# Altium integrated library Linear Technology PMIC-Switching Reg LTC1174-LTC3901.IntLib: 2647 symbols (part 57 of 310)
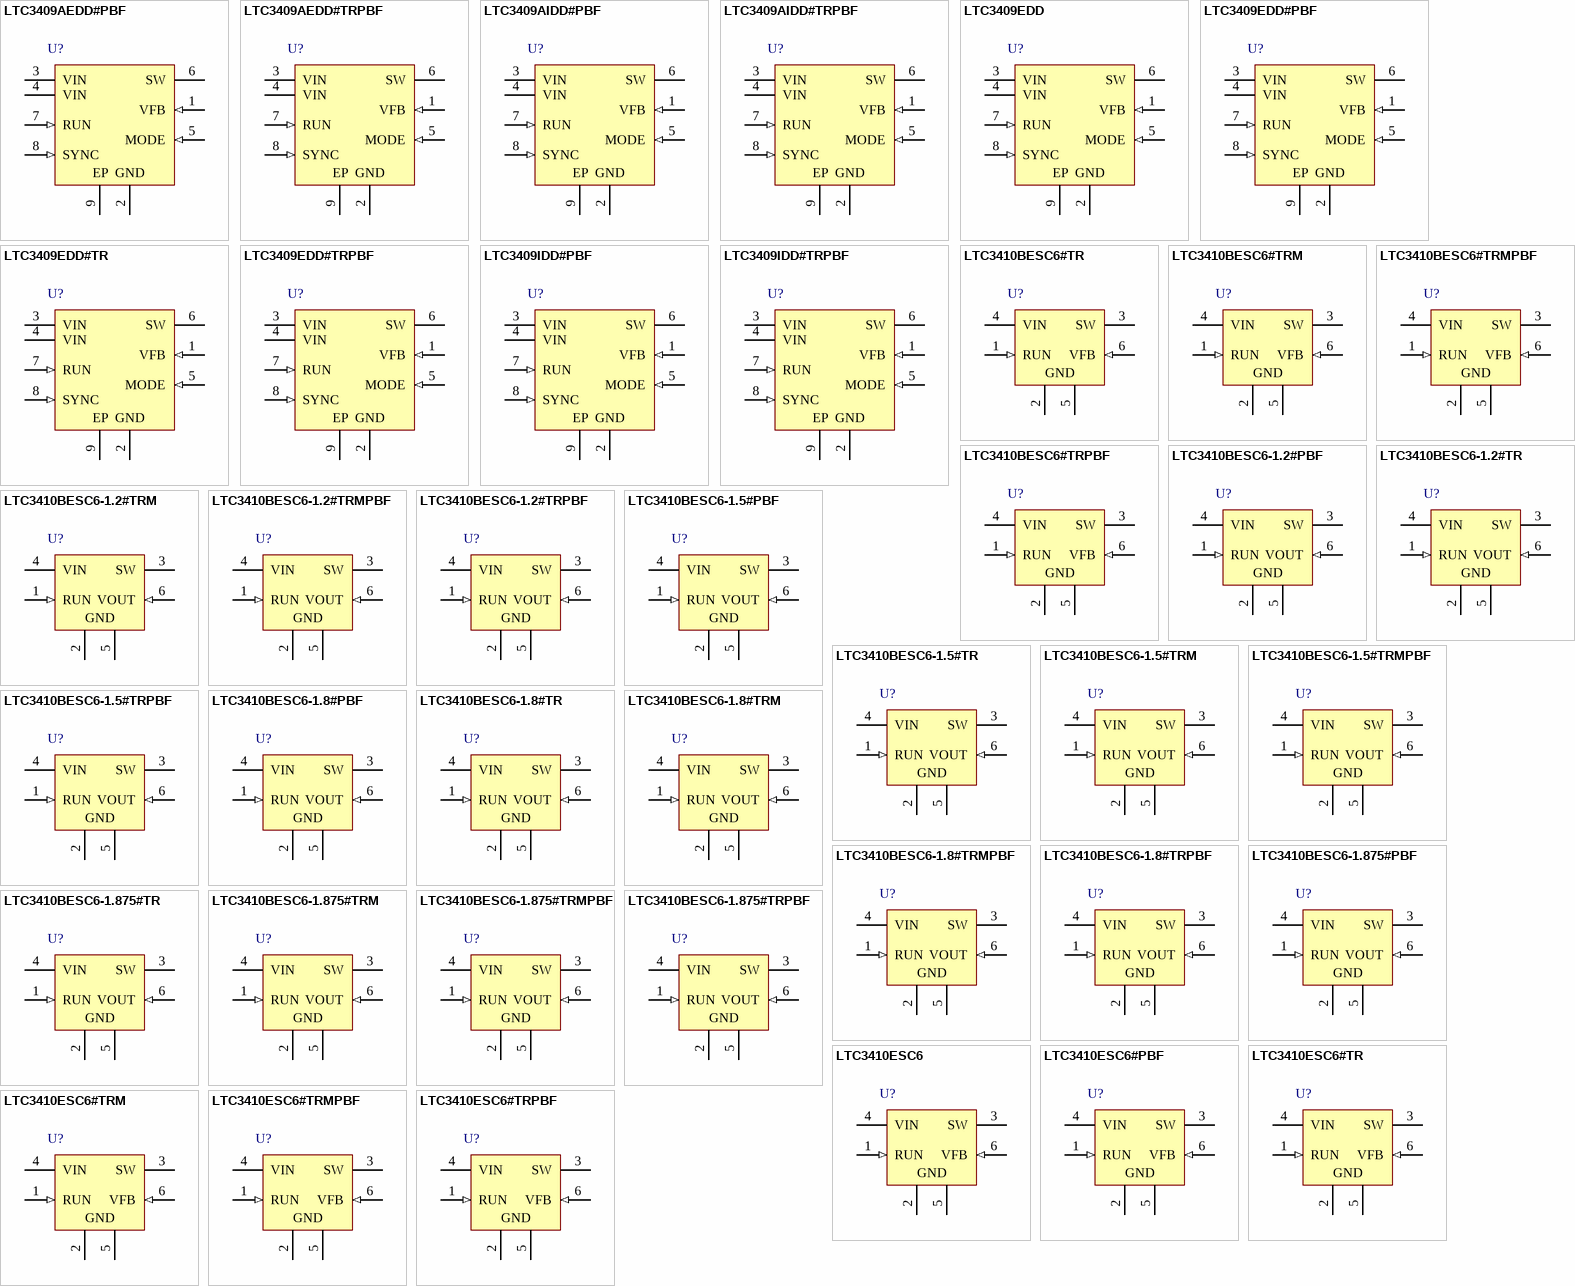
[diagram p149: symbols LTC3409AEDD#PBF to LTC3410ESC6#TRPBF]

## LTC3409EDD#PBF
designator U?
600 mA Low Buck Regulator, 1.6 to 5.5 V Vin, 8-pin SON (DD-8), -40 to 85 degC, Pb-Free; Manufacturer: Linear Technology; PartNumber: LTC3409EDD#PBF; Number of Outputs: 1; PackageReference: DD-8; PackageDescription: 8-Pin Plastic DFN, Body 3 x 3 mm, Pitch 0.5 mm; Supplier 1: Digi-Key; Supplier Part Number 1: LTC3409EDD#PBF-ND; RoHS: TRUE; Code_JEDEC: MO-229
footprint LT-DD-8_V (SON, 8-Leads, Body 3x3mm, Pitch 0.5mm, Thermal Pad 1.65x2.38 mm)
pins: 1 VFB (in) "Feedback Pin. Receives the feedback voltage from an external resistive divider across the output.", 2 GND (power) "Ground Pin.", 3 VIN (power) "Main Supply Pins. Must be closely decoupled to GND, Pin 2 and Pin 9, with a 4.7uF or greater ceramic capacitor.", 4 VIN (power) "Main Supply Pins. Must be closely decoupled to GND, Pin 2 and Pin 9, with a 4.7uF or greater ceramic capacitor.", 5 MODE (in) "Mode Select Input. To select pulse skipping mode, force this pin above 1.1V. Forcing this pin below 0.3V selects Burst Mode operation. Do not leave MODE floating.", 6 SW (power) "Switch Node Connection to Inductor. This pin connects to the drains of the internal main and synchronous power MOSFET switches.", 7 RUN (in) "Run Control Input. Forcing this pin above 1.1V enables the part. Forcing this pin below 0.3V shuts down the device. In shutdown, all functions are disabled drawing <1uA supply current. Do not leave RUN floating.", 8 SYNC (in) "External CLK Input/Fixed Switching Frequency Selection. Forcing this pin above 1.1V for greater than 30us selects 2.6MHz switching frequency. Forcing this pin below 0.3V for greater than 30us selects 1.7MHz switching (See Datasheet)", 9 EP (power) "The Exposed Pad is ground. It must be soldered to PCB ground to provide both electrical contact and optimum thermal performance."

## LTC3409EDD#TR
designator U?
600 mA Low Buck Regulator, 1.6 to 5.5 V Vin, 8-pin SON (DD-8), -40 to 85 degC, Tape and Reel; Manufacturer: Linear Technology; PartNumber: LTC3409EDD#TR; Number of Outputs: 1; PackageReference: DD-8; PackageDescription: 8-Pin Plastic DFN, Body 3 x 3 mm, Pitch 0.5 mm; RoHS: FALSE; Code_JEDEC: MO-229
footprint LT-DD-8_V (SON, 8-Leads, Body 3x3mm, Pitch 0.5mm, Thermal Pad 1.65x2.38 mm)
pins: 1 VFB (in) "Feedback Pin. Receives the feedback voltage from an external resistive divider across the output.", 2 GND (power) "Ground Pin.", 3 VIN (power) "Main Supply Pins. Must be closely decoupled to GND, Pin 2 and Pin 9, with a 4.7uF or greater ceramic capacitor.", 4 VIN (power) "Main Supply Pins. Must be closely decoupled to GND, Pin 2 and Pin 9, with a 4.7uF or greater ceramic capacitor.", 5 MODE (in) "Mode Select Input. To select pulse skipping mode, force this pin above 1.1V. Forcing this pin below 0.3V selects Burst Mode operation. Do not leave MODE floating.", 6 SW (power) "Switch Node Connection to Inductor. This pin connects to the drains of the internal main and synchronous power MOSFET switches.", 7 RUN (in) "Run Control Input. Forcing this pin above 1.1V enables the part. Forcing this pin below 0.3V shuts down the device. In shutdown, all functions are disabled drawing <1uA supply current. Do not leave RUN floating.", 8 SYNC (in) "External CLK Input/Fixed Switching Frequency Selection. Forcing this pin above 1.1V for greater than 30us selects 2.6MHz switching frequency. Forcing this pin below 0.3V for greater than 30us selects 1.7MHz switching (See Datasheet)", 9 EP (power) "The Exposed Pad is ground. It must be soldered to PCB ground to provide both electrical contact and optimum thermal performance."

## LTC3409EDD#TRPBF
designator U?
600 mA Low Buck Regulator, 1.6 to 5.5 V Vin, 8-pin SON (DD-8), -40 to 85 degC, Pb-Free, Tape and Reel; Manufacturer: Linear Technology; PartNumber: LTC3409EDD#TRPBF; Number of Outputs: 1; PackageReference: DD-8; PackageDescription: 8-Pin Plastic DFN, Body 3 x 3 mm, Pitch 0.5 mm; Supplier 1: Digi-Key; Supplier Part Number 1: LTC3409EDD#TRPBF-ND; RoHS: TRUE; Code_JEDEC: MO-229
footprint LT-DD-8_V (SON, 8-Leads, Body 3x3mm, Pitch 0.5mm, Thermal Pad 1.65x2.38 mm)
pins: 1 VFB (in) "Feedback Pin. Receives the feedback voltage from an external resistive divider across the output.", 2 GND (power) "Ground Pin.", 3 VIN (power) "Main Supply Pins. Must be closely decoupled to GND, Pin 2 and Pin 9, with a 4.7uF or greater ceramic capacitor.", 4 VIN (power) "Main Supply Pins. Must be closely decoupled to GND, Pin 2 and Pin 9, with a 4.7uF or greater ceramic capacitor.", 5 MODE (in) "Mode Select Input. To select pulse skipping mode, force this pin above 1.1V. Forcing this pin below 0.3V selects Burst Mode operation. Do not leave MODE floating.", 6 SW (power) "Switch Node Connection to Inductor. This pin connects to the drains of the internal main and synchronous power MOSFET switches.", 7 RUN (in) "Run Control Input. Forcing this pin above 1.1V enables the part. Forcing this pin below 0.3V shuts down the device. In shutdown, all functions are disabled drawing <1uA supply current. Do not leave RUN floating.", 8 SYNC (in) "External CLK Input/Fixed Switching Frequency Selection. Forcing this pin above 1.1V for greater than 30us selects 2.6MHz switching frequency. Forcing this pin below 0.3V for greater than 30us selects 1.7MHz switching (See Datasheet)", 9 EP (power) "The Exposed Pad is ground. It must be soldered to PCB ground to provide both electrical contact and optimum thermal performance."

## LTC3409IDD#PBF
designator U?
600 mA Low Buck Regulator, 1.6 to 5.5 V Vin, 8-pin SON (DD-8), -40 to 85 degC, Pb-Free; Manufacturer: Linear Technology; PartNumber: LTC3409IDD#PBF; Number of Outputs: 1; PackageReference: DD-8; PackageDescription: 8-Pin Plastic DFN, Body 3 x 3 mm, Pitch 0.5 mm; Supplier 1: Digi-Key; Supplier Part Number 1: LTC3409IDD#PBF-ND; RoHS: TRUE; Code_JEDEC: MO-229
footprint LT-DD-8_V (SON, 8-Leads, Body 3x3mm, Pitch 0.5mm, Thermal Pad 1.65x2.38 mm)
pins: 1 VFB (in) "Feedback Pin. Receives the feedback voltage from an external resistive divider across the output.", 2 GND (power) "Ground Pin.", 3 VIN (power) "Main Supply Pins. Must be closely decoupled to GND, Pin 2 and Pin 9, with a 4.7uF or greater ceramic capacitor.", 4 VIN (power) "Main Supply Pins. Must be closely decoupled to GND, Pin 2 and Pin 9, with a 4.7uF or greater ceramic capacitor.", 5 MODE (in) "Mode Select Input. To select pulse skipping mode, force this pin above 1.1V. Forcing this pin below 0.3V selects Burst Mode operation. Do not leave MODE floating.", 6 SW (power) "Switch Node Connection to Inductor. This pin connects to the drains of the internal main and synchronous power MOSFET switches.", 7 RUN (in) "Run Control Input. Forcing this pin above 1.1V enables the part. Forcing this pin below 0.3V shuts down the device. In shutdown, all functions are disabled drawing <1uA supply current. Do not leave RUN floating.", 8 SYNC (in) "External CLK Input/Fixed Switching Frequency Selection. Forcing this pin above 1.1V for greater than 30us selects 2.6MHz switching frequency. Forcing this pin below 0.3V for greater than 30us selects 1.7MHz switching (See Datasheet)", 9 EP (power) "The Exposed Pad is ground. It must be soldered to PCB ground to provide both electrical contact and optimum thermal performance."

## LTC3409IDD#TRPBF
designator U?
600 mA Low Buck Regulator, 1.6 to 5.5 V Vin, 8-pin SON (DD-8), -40 to 85 degC, Pb-Free, Tape and Reel; Manufacturer: Linear Technology; PartNumber: LTC3409IDD#TRPBF; Number of Outputs: 1; PackageReference: DD-8; PackageDescription: 8-Pin Plastic DFN, Body 3 x 3 mm, Pitch 0.5 mm; Supplier 1: Digi-Key; Supplier Part Number 1: LTC3409IDD#TRPBF-ND; RoHS: TRUE; Code_JEDEC: MO-229
footprint LT-DD-8_V (SON, 8-Leads, Body 3x3mm, Pitch 0.5mm, Thermal Pad 1.65x2.38 mm)
pins: 1 VFB (in) "Feedback Pin. Receives the feedback voltage from an external resistive divider across the output.", 2 GND (power) "Ground Pin.", 3 VIN (power) "Main Supply Pins. Must be closely decoupled to GND, Pin 2 and Pin 9, with a 4.7uF or greater ceramic capacitor.", 4 VIN (power) "Main Supply Pins. Must be closely decoupled to GND, Pin 2 and Pin 9, with a 4.7uF or greater ceramic capacitor.", 5 MODE (in) "Mode Select Input. To select pulse skipping mode, force this pin above 1.1V. Forcing this pin below 0.3V selects Burst Mode operation. Do not leave MODE floating.", 6 SW (power) "Switch Node Connection to Inductor. This pin connects to the drains of the internal main and synchronous power MOSFET switches.", 7 RUN (in) "Run Control Input. Forcing this pin above 1.1V enables the part. Forcing this pin below 0.3V shuts down the device. In shutdown, all functions are disabled drawing <1uA supply current. Do not leave RUN floating.", 8 SYNC (in) "External CLK Input/Fixed Switching Frequency Selection. Forcing this pin above 1.1V for greater than 30us selects 2.6MHz switching frequency. Forcing this pin below 0.3V for greater than 30us selects 1.7MHz switching (See Datasheet)", 9 EP (power) "The Exposed Pad is ground. It must be soldered to PCB ground to provide both electrical contact and optimum thermal performance."

## LTC3410BESC6#TR
designator U?
2.25 MHz, 300 mA Synchronous Step-Down Regulator, 6-pin SOT23 (SC6-6), -40 to 85 degC, Tape and Reel; Manufacturer: Linear Technology; PartNumber: LTC3410BESC6#TR; Number of Outputs: 1; PackageReference: SC6-6; PackageDescription: 6-Pin Plastic SC70, Body 2 x 1.25 mm, Pitch 0.65 mm; RoHS: FALSE; Code_JEDEC: MO-203
footprint LT-SC6-6-SC70_N (SOT23, 6-Leads, Body 2.2x1.35mm, Pitch 0.65mm, IPC Medium Density)
footprint LT-SC6-6-SC70_L (SOT23, 6-Leads, Body 2.2x1.35mm, Pitch 0.65mm, IPC High Density)
footprint LT-SC6-6-SC70_M (SOT23, 6-Leads, Body 2.2x1.35mm, Pitch 0.65mm, IPC Low Density)
pins: 1 RUN (in) "Run Control Input. Forcing this pin above 1.5V enables the part. Forcing this pin below 0.3V shuts down the device. In shutdown, all functions are disabled drawing <1uA supply current. Do not leave RUN floating.", 2 GND (power) "Ground Pin.", 3 SW (power) "Switch Node Connection to Inductor. This pin connects to the drains of the internal main and synchronous power MOSFET switches.", 4 VIN (power) "Main Supply Pin. Must be closely decoupled to GND, Pin 2, with a 2.2uF or greater ceramic capacitor.", 5 GND (power) "Ground Pin.", 6 VFB (in) "Feedback Pin. Receives the feedback voltage from an external resistive divider across the output."

## LTC3410BESC6#TRM
designator U?
2.25 MHz, 300 mA Synchronous Step-Down Regulator, 6-pin SOT23 (SC6-6), -40 to 85 degC, Mini Tape and Reel; Manufacturer: Linear Technology; PartNumber: LTC3410BESC6#TRM; Number of Outputs: 1; PackageReference: SC6-6; PackageDescription: 6-Pin Plastic SC70, Body 2 x 1.25 mm, Pitch 0.65 mm; RoHS: FALSE; Code_JEDEC: MO-203
footprint LT-SC6-6-SC70_N (SOT23, 6-Leads, Body 2.2x1.35mm, Pitch 0.65mm, IPC Medium Density)
footprint LT-SC6-6-SC70_L (SOT23, 6-Leads, Body 2.2x1.35mm, Pitch 0.65mm, IPC High Density)
footprint LT-SC6-6-SC70_M (SOT23, 6-Leads, Body 2.2x1.35mm, Pitch 0.65mm, IPC Low Density)
pins: 1 RUN (in) "Run Control Input. Forcing this pin above 1.5V enables the part. Forcing this pin below 0.3V shuts down the device. In shutdown, all functions are disabled drawing <1uA supply current. Do not leave RUN floating.", 2 GND (power) "Ground Pin.", 3 SW (power) "Switch Node Connection to Inductor. This pin connects to the drains of the internal main and synchronous power MOSFET switches.", 4 VIN (power) "Main Supply Pin. Must be closely decoupled to GND, Pin 2, with a 2.2uF or greater ceramic capacitor.", 5 GND (power) "Ground Pin.", 6 VFB (in) "Feedback Pin. Receives the feedback voltage from an external resistive divider across the output."

## LTC3410BESC6#TRMPBF
designator U?
2.25 MHz, 300 mA Synchronous Step-Down Regulator, 6-pin SOT23 (SC6-6), -40 to 85 degC, Pb-Free, Mini Tape and Reel; Manufacturer: Linear Technology; PartNumber: LTC3410BESC6#TRMPBF; Number of Outputs: 1; PackageReference: SC6-6; PackageDescription: 6-Pin Plastic SC70, Body 2 x 1.25 mm, Pitch 0.65 mm; Supplier 1: Digi-Key; Supplier Part Number 1: LTC3410BESC6#TRMPBF-ND; RoHS: TRUE; Code_JEDEC: MO-203
footprint LT-SC6-6-SC70_N (SOT23, 6-Leads, Body 2.2x1.35mm, Pitch 0.65mm, IPC Medium Density)
footprint LT-SC6-6-SC70_L (SOT23, 6-Leads, Body 2.2x1.35mm, Pitch 0.65mm, IPC High Density)
footprint LT-SC6-6-SC70_M (SOT23, 6-Leads, Body 2.2x1.35mm, Pitch 0.65mm, IPC Low Density)
pins: 1 RUN (in) "Run Control Input. Forcing this pin above 1.5V enables the part. Forcing this pin below 0.3V shuts down the device. In shutdown, all functions are disabled drawing <1uA supply current. Do not leave RUN floating.", 2 GND (power) "Ground Pin.", 3 SW (power) "Switch Node Connection to Inductor. This pin connects to the drains of the internal main and synchronous power MOSFET switches.", 4 VIN (power) "Main Supply Pin. Must be closely decoupled to GND, Pin 2, with a 2.2uF or greater ceramic capacitor.", 5 GND (power) "Ground Pin.", 6 VFB (in) "Feedback Pin. Receives the feedback voltage from an external resistive divider across the output."

## LTC3410BESC6#TRPBF
designator U?
2.25 MHz, 300 mA Synchronous Step-Down Regulator, 6-pin SOT23 (SC6-6), -40 to 85 degC, Pb-Free, Tape and Reel; Manufacturer: Linear Technology; PartNumber: LTC3410BESC6#TRPBF; Number of Outputs: 1; PackageReference: SC6-6; PackageDescription: 6-Pin Plastic SC70, Body 2 x 1.25 mm, Pitch 0.65 mm; Supplier 1: Digi-Key; Supplier Part Number 1: LTC3410BESC6#TRPBF-ND; RoHS: TRUE; Code_JEDEC: MO-203
footprint LT-SC6-6-SC70_N (SOT23, 6-Leads, Body 2.2x1.35mm, Pitch 0.65mm, IPC Medium Density)
footprint LT-SC6-6-SC70_L (SOT23, 6-Leads, Body 2.2x1.35mm, Pitch 0.65mm, IPC High Density)
footprint LT-SC6-6-SC70_M (SOT23, 6-Leads, Body 2.2x1.35mm, Pitch 0.65mm, IPC Low Density)
pins: 1 RUN (in) "Run Control Input. Forcing this pin above 1.5V enables the part. Forcing this pin below 0.3V shuts down the device. In shutdown, all functions are disabled drawing <1uA supply current. Do not leave RUN floating.", 2 GND (power) "Ground Pin.", 3 SW (power) "Switch Node Connection to Inductor. This pin connects to the drains of the internal main and synchronous power MOSFET switches.", 4 VIN (power) "Main Supply Pin. Must be closely decoupled to GND, Pin 2, with a 2.2uF or greater ceramic capacitor.", 5 GND (power) "Ground Pin.", 6 VFB (in) "Feedback Pin. Receives the feedback voltage from an external resistive divider across the output."

## LTC3410BESC6-1.2#PBF
designator U?
2.25 MHz, 300 mA Synchronous Step-Down Regulator, 6-pin SOT23 (SC6-6), -40 to 85 degC, Pb-Free; Manufacturer: Linear Technology; PartNumber: LTC3410BESC6-1.2#PBF; Number of Outputs: 1; PackageReference: SC6-6; PackageDescription: 6-Pin Plastic SC70, Body 2 x 1.25 mm, Pitch 0.65 mm; RoHS: TRUE; Code_JEDEC: MO-203
footprint LT-SC6-6-SC70_N (SOT23, 6-Leads, Body 2.2x1.35mm, Pitch 0.65mm, IPC Medium Density)
footprint LT-SC6-6-SC70_L (SOT23, 6-Leads, Body 2.2x1.35mm, Pitch 0.65mm, IPC High Density)
footprint LT-SC6-6-SC70_M (SOT23, 6-Leads, Body 2.2x1.35mm, Pitch 0.65mm, IPC Low Density)
pins: 1 RUN (in) "Run Control Input. Forcing this pin above 1.5V enables the part. Forcing this pin below 0.3V shuts down the device. In shutdown, all functions are disabled drawing <1uA supply current. Do not leave RUN floating.", 2 GND (power) "Ground Pin.", 3 SW (power) "Switch Node Connection to Inductor. This pin connects to the drains of the internal main and synchronous power MOSFET switches.", 4 VIN (power) "Main Supply Pin. Must be closely decoupled to GND, Pin 2, with a 2.2uF or greater ceramic capacitor.", 5 GND (power) "Ground Pin.", 6 VOUT (in) "Output Voltage Feedback Pin."

## LTC3410BESC6-1.2#TR
designator U?
2.25 MHz, 300 mA Synchronous Step-Down Regulator, 6-pin SOT23 (SC6-6), -40 to 85 degC, Tape and Reel; Manufacturer: Linear Technology; PartNumber: LTC3410BESC6-1.2#TR; Number of Outputs: 1; PackageReference: SC6-6; PackageDescription: 6-Pin Plastic SC70, Body 2 x 1.25 mm, Pitch 0.65 mm; RoHS: FALSE; Code_JEDEC: MO-203
footprint LT-SC6-6-SC70_N (SOT23, 6-Leads, Body 2.2x1.35mm, Pitch 0.65mm, IPC Medium Density)
footprint LT-SC6-6-SC70_L (SOT23, 6-Leads, Body 2.2x1.35mm, Pitch 0.65mm, IPC High Density)
footprint LT-SC6-6-SC70_M (SOT23, 6-Leads, Body 2.2x1.35mm, Pitch 0.65mm, IPC Low Density)
pins: 1 RUN (in) "Run Control Input. Forcing this pin above 1.5V enables the part. Forcing this pin below 0.3V shuts down the device. In shutdown, all functions are disabled drawing <1uA supply current. Do not leave RUN floating.", 2 GND (power) "Ground Pin.", 3 SW (power) "Switch Node Connection to Inductor. This pin connects to the drains of the internal main and synchronous power MOSFET switches.", 4 VIN (power) "Main Supply Pin. Must be closely decoupled to GND, Pin 2, with a 2.2uF or greater ceramic capacitor.", 5 GND (power) "Ground Pin.", 6 VOUT (in) "Output Voltage Feedback Pin."

## LTC3410BESC6-1.2#TRM
designator U?
2.25 MHz, 300 mA Synchronous Step-Down Regulator, 6-pin SOT23 (SC6-6), -40 to 85 degC, Mini Tape and Reel; Manufacturer: Linear Technology; PartNumber: LTC3410BESC6-1.2#TRM; Number of Outputs: 1; PackageReference: SC6-6; PackageDescription: 6-Pin Plastic SC70, Body 2 x 1.25 mm, Pitch 0.65 mm; RoHS: FALSE; Code_JEDEC: MO-203
footprint LT-SC6-6-SC70_N (SOT23, 6-Leads, Body 2.2x1.35mm, Pitch 0.65mm, IPC Medium Density)
footprint LT-SC6-6-SC70_L (SOT23, 6-Leads, Body 2.2x1.35mm, Pitch 0.65mm, IPC High Density)
footprint LT-SC6-6-SC70_M (SOT23, 6-Leads, Body 2.2x1.35mm, Pitch 0.65mm, IPC Low Density)
pins: 1 RUN (in) "Run Control Input. Forcing this pin above 1.5V enables the part. Forcing this pin below 0.3V shuts down the device. In shutdown, all functions are disabled drawing <1uA supply current. Do not leave RUN floating.", 2 GND (power) "Ground Pin.", 3 SW (power) "Switch Node Connection to Inductor. This pin connects to the drains of the internal main and synchronous power MOSFET switches.", 4 VIN (power) "Main Supply Pin. Must be closely decoupled to GND, Pin 2, with a 2.2uF or greater ceramic capacitor.", 5 GND (power) "Ground Pin.", 6 VOUT (in) "Output Voltage Feedback Pin."

## LTC3410BESC6-1.2#TRMPBF
designator U?
2.25 MHz, 300 mA Synchronous Step-Down Regulator, 6-pin SOT23 (SC6-6), -40 to 85 degC, Pb-Free, Mini Tape and Reel; Manufacturer: Linear Technology; PartNumber: LTC3410BESC6-1.2#TRMPBF; Number of Outputs: 1; PackageReference: SC6-6; PackageDescription: 6-Pin Plastic SC70, Body 2 x 1.25 mm, Pitch 0.65 mm; Supplier 1: Digi-Key; Supplier Part Number 1: LTC3410BESC6-1.2#TRMPBF-ND; RoHS: TRUE; Code_JEDEC: MO-203
footprint LT-SC6-6-SC70_N (SOT23, 6-Leads, Body 2.2x1.35mm, Pitch 0.65mm, IPC Medium Density)
footprint LT-SC6-6-SC70_L (SOT23, 6-Leads, Body 2.2x1.35mm, Pitch 0.65mm, IPC High Density)
footprint LT-SC6-6-SC70_M (SOT23, 6-Leads, Body 2.2x1.35mm, Pitch 0.65mm, IPC Low Density)
pins: 1 RUN (in) "Run Control Input. Forcing this pin above 1.5V enables the part. Forcing this pin below 0.3V shuts down the device. In shutdown, all functions are disabled drawing <1uA supply current. Do not leave RUN floating.", 2 GND (power) "Ground Pin.", 3 SW (power) "Switch Node Connection to Inductor. This pin connects to the drains of the internal main and synchronous power MOSFET switches.", 4 VIN (power) "Main Supply Pin. Must be closely decoupled to GND, Pin 2, with a 2.2uF or greater ceramic capacitor.", 5 GND (power) "Ground Pin.", 6 VOUT (in) "Output Voltage Feedback Pin."

## LTC3410BESC6-1.2#TRPBF
designator U?
2.25 MHz, 300 mA Synchronous Step-Down Regulator, 6-pin SOT23 (SC6-6), -40 to 85 degC, Pb-Free, Tape and Reel; Manufacturer: Linear Technology; PartNumber: LTC3410BESC6-1.2#TRPBF; Number of Outputs: 1; PackageReference: SC6-6; PackageDescription: 6-Pin Plastic SC70, Body 2 x 1.25 mm, Pitch 0.65 mm; Supplier 1: Digi-Key; Supplier Part Number 1: LTC3410BESC6-1.2#TRPBF-ND; RoHS: TRUE; Code_JEDEC: MO-203
footprint LT-SC6-6-SC70_N (SOT23, 6-Leads, Body 2.2x1.35mm, Pitch 0.65mm, IPC Medium Density)
footprint LT-SC6-6-SC70_L (SOT23, 6-Leads, Body 2.2x1.35mm, Pitch 0.65mm, IPC High Density)
footprint LT-SC6-6-SC70_M (SOT23, 6-Leads, Body 2.2x1.35mm, Pitch 0.65mm, IPC Low Density)
pins: 1 RUN (in) "Run Control Input. Forcing this pin above 1.5V enables the part. Forcing this pin below 0.3V shuts down the device. In shutdown, all functions are disabled drawing <1uA supply current. Do not leave RUN floating.", 2 GND (power) "Ground Pin.", 3 SW (power) "Switch Node Connection to Inductor. This pin connects to the drains of the internal main and synchronous power MOSFET switches.", 4 VIN (power) "Main Supply Pin. Must be closely decoupled to GND, Pin 2, with a 2.2uF or greater ceramic capacitor.", 5 GND (power) "Ground Pin.", 6 VOUT (in) "Output Voltage Feedback Pin."

## LTC3410BESC6-1.5#PBF
designator U?
2.25 MHz, 300 mA Synchronous Step-Down Regulator, 6-pin SOT23 (SC6-6), -40 to 85 degC, Pb-Free; Manufacturer: Linear Technology; PartNumber: LTC3410BESC6-1.5#PBF; Number of Outputs: 1; PackageReference: SC6-6; PackageDescription: 6-Pin Plastic SC70, Body 2 x 1.25 mm, Pitch 0.65 mm; RoHS: TRUE; Code_JEDEC: MO-203
footprint LT-SC6-6-SC70_N (SOT23, 6-Leads, Body 2.2x1.35mm, Pitch 0.65mm, IPC Medium Density)
footprint LT-SC6-6-SC70_L (SOT23, 6-Leads, Body 2.2x1.35mm, Pitch 0.65mm, IPC High Density)
footprint LT-SC6-6-SC70_M (SOT23, 6-Leads, Body 2.2x1.35mm, Pitch 0.65mm, IPC Low Density)
pins: 1 RUN (in) "Run Control Input. Forcing this pin above 1.5V enables the part. Forcing this pin below 0.3V shuts down the device. In shutdown, all functions are disabled drawing <1uA supply current. Do not leave RUN floating.", 2 GND (power) "Ground Pin.", 3 SW (power) "Switch Node Connection to Inductor. This pin connects to the drains of the internal main and synchronous power MOSFET switches.", 4 VIN (power) "Main Supply Pin. Must be closely decoupled to GND, Pin 2, with a 2.2uF or greater ceramic capacitor.", 5 GND (power) "Ground Pin.", 6 VOUT (in) "Output Voltage Feedback Pin."

## LTC3410BESC6-1.5#TR
designator U?
2.25 MHz, 300 mA Synchronous Step-Down Regulator, 6-pin SOT23 (SC6-6), -40 to 85 degC, Tape and Reel; Manufacturer: Linear Technology; PartNumber: LTC3410BESC6-1.5#TR; Number of Outputs: 1; PackageReference: SC6-6; PackageDescription: 6-Pin Plastic SC70, Body 2 x 1.25 mm, Pitch 0.65 mm; RoHS: FALSE; Code_JEDEC: MO-203
footprint LT-SC6-6-SC70_N (SOT23, 6-Leads, Body 2.2x1.35mm, Pitch 0.65mm, IPC Medium Density)
footprint LT-SC6-6-SC70_L (SOT23, 6-Leads, Body 2.2x1.35mm, Pitch 0.65mm, IPC High Density)
footprint LT-SC6-6-SC70_M (SOT23, 6-Leads, Body 2.2x1.35mm, Pitch 0.65mm, IPC Low Density)
pins: 1 RUN (in) "Run Control Input. Forcing this pin above 1.5V enables the part. Forcing this pin below 0.3V shuts down the device. In shutdown, all functions are disabled drawing <1uA supply current. Do not leave RUN floating.", 2 GND (power) "Ground Pin.", 3 SW (power) "Switch Node Connection to Inductor. This pin connects to the drains of the internal main and synchronous power MOSFET switches.", 4 VIN (power) "Main Supply Pin. Must be closely decoupled to GND, Pin 2, with a 2.2uF or greater ceramic capacitor.", 5 GND (power) "Ground Pin.", 6 VOUT (in) "Output Voltage Feedback Pin."

## LTC3410BESC6-1.5#TRM
designator U?
2.25 MHz, 300 mA Synchronous Step-Down Regulator, 6-pin SOT23 (SC6-6), -40 to 85 degC, Mini Tape and Reel; Manufacturer: Linear Technology; PartNumber: LTC3410BESC6-1.5#TRM; Number of Outputs: 1; PackageReference: SC6-6; PackageDescription: 6-Pin Plastic SC70, Body 2 x 1.25 mm, Pitch 0.65 mm; RoHS: FALSE; Code_JEDEC: MO-203
footprint LT-SC6-6-SC70_N (SOT23, 6-Leads, Body 2.2x1.35mm, Pitch 0.65mm, IPC Medium Density)
footprint LT-SC6-6-SC70_L (SOT23, 6-Leads, Body 2.2x1.35mm, Pitch 0.65mm, IPC High Density)
footprint LT-SC6-6-SC70_M (SOT23, 6-Leads, Body 2.2x1.35mm, Pitch 0.65mm, IPC Low Density)
pins: 1 RUN (in) "Run Control Input. Forcing this pin above 1.5V enables the part. Forcing this pin below 0.3V shuts down the device. In shutdown, all functions are disabled drawing <1uA supply current. Do not leave RUN floating.", 2 GND (power) "Ground Pin.", 3 SW (power) "Switch Node Connection to Inductor. This pin connects to the drains of the internal main and synchronous power MOSFET switches.", 4 VIN (power) "Main Supply Pin. Must be closely decoupled to GND, Pin 2, with a 2.2uF or greater ceramic capacitor.", 5 GND (power) "Ground Pin.", 6 VOUT (in) "Output Voltage Feedback Pin."

## LTC3410BESC6-1.5#TRMPBF
designator U?
2.25 MHz, 300 mA Synchronous Step-Down Regulator, 6-pin SOT23 (SC6-6), -40 to 85 degC, Pb-Free, Mini Tape and Reel; Manufacturer: Linear Technology; PartNumber: LTC3410BESC6-1.5#TRMPBF; Number of Outputs: 1; PackageReference: SC6-6; PackageDescription: 6-Pin Plastic SC70, Body 2 x 1.25 mm, Pitch 0.65 mm; Supplier 1: Digi-Key; Supplier Part Number 1: LTC3410BESC6-1.5#TRMPBF-ND; RoHS: TRUE; Code_JEDEC: MO-203
footprint LT-SC6-6-SC70_N (SOT23, 6-Leads, Body 2.2x1.35mm, Pitch 0.65mm, IPC Medium Density)
footprint LT-SC6-6-SC70_L (SOT23, 6-Leads, Body 2.2x1.35mm, Pitch 0.65mm, IPC High Density)
footprint LT-SC6-6-SC70_M (SOT23, 6-Leads, Body 2.2x1.35mm, Pitch 0.65mm, IPC Low Density)
pins: 1 RUN (in) "Run Control Input. Forcing this pin above 1.5V enables the part. Forcing this pin below 0.3V shuts down the device. In shutdown, all functions are disabled drawing <1uA supply current. Do not leave RUN floating.", 2 GND (power) "Ground Pin.", 3 SW (power) "Switch Node Connection to Inductor. This pin connects to the drains of the internal main and synchronous power MOSFET switches.", 4 VIN (power) "Main Supply Pin. Must be closely decoupled to GND, Pin 2, with a 2.2uF or greater ceramic capacitor.", 5 GND (power) "Ground Pin.", 6 VOUT (in) "Output Voltage Feedback Pin."

## LTC3410BESC6-1.5#TRPBF
designator U?
2.25 MHz, 300 mA Synchronous Step-Down Regulator, 6-pin SOT23 (SC6-6), -40 to 85 degC, Pb-Free, Tape and Reel; Manufacturer: Linear Technology; PartNumber: LTC3410BESC6-1.5#TRPBF; Number of Outputs: 1; PackageReference: SC6-6; PackageDescription: 6-Pin Plastic SC70, Body 2 x 1.25 mm, Pitch 0.65 mm; Supplier 1: Digi-Key; Supplier Part Number 1: LTC3410BESC6-1.5#TRPBF-ND; RoHS: TRUE; Code_JEDEC: MO-203
footprint LT-SC6-6-SC70_N (SOT23, 6-Leads, Body 2.2x1.35mm, Pitch 0.65mm, IPC Medium Density)
footprint LT-SC6-6-SC70_L (SOT23, 6-Leads, Body 2.2x1.35mm, Pitch 0.65mm, IPC High Density)
footprint LT-SC6-6-SC70_M (SOT23, 6-Leads, Body 2.2x1.35mm, Pitch 0.65mm, IPC Low Density)
pins: 1 RUN (in) "Run Control Input. Forcing this pin above 1.5V enables the part. Forcing this pin below 0.3V shuts down the device. In shutdown, all functions are disabled drawing <1uA supply current. Do not leave RUN floating.", 2 GND (power) "Ground Pin.", 3 SW (power) "Switch Node Connection to Inductor. This pin connects to the drains of the internal main and synchronous power MOSFET switches.", 4 VIN (power) "Main Supply Pin. Must be closely decoupled to GND, Pin 2, with a 2.2uF or greater ceramic capacitor.", 5 GND (power) "Ground Pin.", 6 VOUT (in) "Output Voltage Feedback Pin."

## LTC3410BESC6-1.8#PBF
designator U?
2.25 MHz, 300 mA Synchronous Step-Down Regulator, 6-pin SOT23 (SC6-6), -40 to 85 degC, Pb-Free; Manufacturer: Linear Technology; PartNumber: LTC3410BESC6-1.8#PBF; Number of Outputs: 1; PackageReference: SC6-6; PackageDescription: 6-Pin Plastic SC70, Body 2 x 1.25 mm, Pitch 0.65 mm; RoHS: TRUE; Code_JEDEC: MO-203
footprint LT-SC6-6-SC70_N (SOT23, 6-Leads, Body 2.2x1.35mm, Pitch 0.65mm, IPC Medium Density)
footprint LT-SC6-6-SC70_L (SOT23, 6-Leads, Body 2.2x1.35mm, Pitch 0.65mm, IPC High Density)
footprint LT-SC6-6-SC70_M (SOT23, 6-Leads, Body 2.2x1.35mm, Pitch 0.65mm, IPC Low Density)
pins: 1 RUN (in) "Run Control Input. Forcing this pin above 1.5V enables the part. Forcing this pin below 0.3V shuts down the device. In shutdown, all functions are disabled drawing <1uA supply current. Do not leave RUN floating.", 2 GND (power) "Ground Pin.", 3 SW (power) "Switch Node Connection to Inductor. This pin connects to the drains of the internal main and synchronous power MOSFET switches.", 4 VIN (power) "Main Supply Pin. Must be closely decoupled to GND, Pin 2, with a 2.2uF or greater ceramic capacitor.", 5 GND (power) "Ground Pin.", 6 VOUT (in) "Output Voltage Feedback Pin."

## LTC3410BESC6-1.8#TR
designator U?
2.25 MHz, 300 mA Synchronous Step-Down Regulator, 6-pin SOT23 (SC6-6), -40 to 85 degC, Tape and Reel; Manufacturer: Linear Technology; PartNumber: LTC3410BESC6-1.8#TR; Number of Outputs: 1; PackageReference: SC6-6; PackageDescription: 6-Pin Plastic SC70, Body 2 x 1.25 mm, Pitch 0.65 mm; RoHS: FALSE; Code_JEDEC: MO-203
footprint LT-SC6-6-SC70_N (SOT23, 6-Leads, Body 2.2x1.35mm, Pitch 0.65mm, IPC Medium Density)
footprint LT-SC6-6-SC70_L (SOT23, 6-Leads, Body 2.2x1.35mm, Pitch 0.65mm, IPC High Density)
footprint LT-SC6-6-SC70_M (SOT23, 6-Leads, Body 2.2x1.35mm, Pitch 0.65mm, IPC Low Density)
pins: 1 RUN (in) "Run Control Input. Forcing this pin above 1.5V enables the part. Forcing this pin below 0.3V shuts down the device. In shutdown, all functions are disabled drawing <1uA supply current. Do not leave RUN floating.", 2 GND (power) "Ground Pin.", 3 SW (power) "Switch Node Connection to Inductor. This pin connects to the drains of the internal main and synchronous power MOSFET switches.", 4 VIN (power) "Main Supply Pin. Must be closely decoupled to GND, Pin 2, with a 2.2uF or greater ceramic capacitor.", 5 GND (power) "Ground Pin.", 6 VOUT (in) "Output Voltage Feedback Pin."

## LTC3410BESC6-1.8#TRM
designator U?
2.25 MHz, 300 mA Synchronous Step-Down Regulator, 6-pin SOT23 (SC6-6), -40 to 85 degC, Mini Tape and Reel; Manufacturer: Linear Technology; PartNumber: LTC3410BESC6-1.8#TRM; Number of Outputs: 1; PackageReference: SC6-6; PackageDescription: 6-Pin Plastic SC70, Body 2 x 1.25 mm, Pitch 0.65 mm; RoHS: FALSE; Code_JEDEC: MO-203
footprint LT-SC6-6-SC70_N (SOT23, 6-Leads, Body 2.2x1.35mm, Pitch 0.65mm, IPC Medium Density)
footprint LT-SC6-6-SC70_L (SOT23, 6-Leads, Body 2.2x1.35mm, Pitch 0.65mm, IPC High Density)
footprint LT-SC6-6-SC70_M (SOT23, 6-Leads, Body 2.2x1.35mm, Pitch 0.65mm, IPC Low Density)
pins: 1 RUN (in) "Run Control Input. Forcing this pin above 1.5V enables the part. Forcing this pin below 0.3V shuts down the device. In shutdown, all functions are disabled drawing <1uA supply current. Do not leave RUN floating.", 2 GND (power) "Ground Pin.", 3 SW (power) "Switch Node Connection to Inductor. This pin connects to the drains of the internal main and synchronous power MOSFET switches.", 4 VIN (power) "Main Supply Pin. Must be closely decoupled to GND, Pin 2, with a 2.2uF or greater ceramic capacitor.", 5 GND (power) "Ground Pin.", 6 VOUT (in) "Output Voltage Feedback Pin."

## LTC3410BESC6-1.8#TRMPBF
designator U?
2.25 MHz, 300 mA Synchronous Step-Down Regulator, 6-pin SOT23 (SC6-6), -40 to 85 degC, Pb-Free, Mini Tape and Reel; Manufacturer: Linear Technology; PartNumber: LTC3410BESC6-1.8#TRMPBF; Number of Outputs: 1; PackageReference: SC6-6; PackageDescription: 6-Pin Plastic SC70, Body 2 x 1.25 mm, Pitch 0.65 mm; Supplier 1: Digi-Key; Supplier Part Number 1: LTC3410BESC6-1.8#TRMPBF-ND; RoHS: TRUE; Code_JEDEC: MO-203
footprint LT-SC6-6-SC70_N (SOT23, 6-Leads, Body 2.2x1.35mm, Pitch 0.65mm, IPC Medium Density)
footprint LT-SC6-6-SC70_L (SOT23, 6-Leads, Body 2.2x1.35mm, Pitch 0.65mm, IPC High Density)
footprint LT-SC6-6-SC70_M (SOT23, 6-Leads, Body 2.2x1.35mm, Pitch 0.65mm, IPC Low Density)
pins: 1 RUN (in) "Run Control Input. Forcing this pin above 1.5V enables the part. Forcing this pin below 0.3V shuts down the device. In shutdown, all functions are disabled drawing <1uA supply current. Do not leave RUN floating.", 2 GND (power) "Ground Pin.", 3 SW (power) "Switch Node Connection to Inductor. This pin connects to the drains of the internal main and synchronous power MOSFET switches.", 4 VIN (power) "Main Supply Pin. Must be closely decoupled to GND, Pin 2, with a 2.2uF or greater ceramic capacitor.", 5 GND (power) "Ground Pin.", 6 VOUT (in) "Output Voltage Feedback Pin."

## LTC3410BESC6-1.8#TRPBF
designator U?
2.25 MHz, 300 mA Synchronous Step-Down Regulator, 6-pin SOT23 (SC6-6), -40 to 85 degC, Pb-Free, Tape and Reel; Manufacturer: Linear Technology; PartNumber: LTC3410BESC6-1.8#TRPBF; Number of Outputs: 1; PackageReference: SC6-6; PackageDescription: 6-Pin Plastic SC70, Body 2 x 1.25 mm, Pitch 0.65 mm; Supplier 1: Digi-Key; Supplier Part Number 1: LTC3410BESC6-1.8#TRPBF-ND; RoHS: TRUE; Code_JEDEC: MO-203
footprint LT-SC6-6-SC70_N (SOT23, 6-Leads, Body 2.2x1.35mm, Pitch 0.65mm, IPC Medium Density)
footprint LT-SC6-6-SC70_L (SOT23, 6-Leads, Body 2.2x1.35mm, Pitch 0.65mm, IPC High Density)
footprint LT-SC6-6-SC70_M (SOT23, 6-Leads, Body 2.2x1.35mm, Pitch 0.65mm, IPC Low Density)
pins: 1 RUN (in) "Run Control Input. Forcing this pin above 1.5V enables the part. Forcing this pin below 0.3V shuts down the device. In shutdown, all functions are disabled drawing <1uA supply current. Do not leave RUN floating.", 2 GND (power) "Ground Pin.", 3 SW (power) "Switch Node Connection to Inductor. This pin connects to the drains of the internal main and synchronous power MOSFET switches.", 4 VIN (power) "Main Supply Pin. Must be closely decoupled to GND, Pin 2, with a 2.2uF or greater ceramic capacitor.", 5 GND (power) "Ground Pin.", 6 VOUT (in) "Output Voltage Feedback Pin."

## LTC3410BESC6-1.875#PBF
designator U?
2.25 MHz, 300 mA Synchronous Step-Down Regulator, 6-pin SOT23 (SC6-6), -40 to 85 degC; Manufacturer: Linear Technology; PartNumber: LTC3410BESC6-1.875#PBF; Number of Outputs: 1; PackageReference: SC6-6; PackageDescription: 6-Pin Plastic SC70, Body 2 x 1.25 mm, Pitch 0.65 mm; RoHS: TRUE; Code_JEDEC: MO-203
footprint LT-SC6-6-SC70_N (SOT23, 6-Leads, Body 2.2x1.35mm, Pitch 0.65mm, IPC Medium Density)
footprint LT-SC6-6-SC70_L (SOT23, 6-Leads, Body 2.2x1.35mm, Pitch 0.65mm, IPC High Density)
footprint LT-SC6-6-SC70_M (SOT23, 6-Leads, Body 2.2x1.35mm, Pitch 0.65mm, IPC Low Density)
pins: 1 RUN (in) "Run Control Input. Forcing this pin above 1.5V enables the part. Forcing this pin below 0.3V shuts down the device. In shutdown, all functions are disabled drawing <1uA supply current. Do not leave RUN floating.", 2 GND (power) "Ground Pin.", 3 SW (power) "Switch Node Connection to Inductor. This pin connects to the drains of the internal main and synchronous power MOSFET switches.", 4 VIN (power) "Main Supply Pin. Must be closely decoupled to GND, Pin 2, with a 2.2uF or greater ceramic capacitor.", 5 GND (power) "Ground Pin.", 6 VOUT (in) "Output Voltage Feedback Pin."

## LTC3410BESC6-1.875#TR
designator U?
2.25 MHz, 300 mA Synchronous Step-Down Regulator, 6-pin SOT23 (SC6-6), -40 to 85 degC, Tape and Reel; Manufacturer: Linear Technology; PartNumber: LTC3410BESC6-1.875#TR; Number of Outputs: 1; PackageReference: SC6-6; PackageDescription: 6-Pin Plastic SC70, Body 2 x 1.25 mm, Pitch 0.65 mm; RoHS: FALSE; Code_JEDEC: MO-203
footprint LT-SC6-6-SC70_N (SOT23, 6-Leads, Body 2.2x1.35mm, Pitch 0.65mm, IPC Medium Density)
footprint LT-SC6-6-SC70_L (SOT23, 6-Leads, Body 2.2x1.35mm, Pitch 0.65mm, IPC High Density)
footprint LT-SC6-6-SC70_M (SOT23, 6-Leads, Body 2.2x1.35mm, Pitch 0.65mm, IPC Low Density)
pins: 1 RUN (in) "Run Control Input. Forcing this pin above 1.5V enables the part. Forcing this pin below 0.3V shuts down the device. In shutdown, all functions are disabled drawing <1uA supply current. Do not leave RUN floating.", 2 GND (power) "Ground Pin.", 3 SW (power) "Switch Node Connection to Inductor. This pin connects to the drains of the internal main and synchronous power MOSFET switches.", 4 VIN (power) "Main Supply Pin. Must be closely decoupled to GND, Pin 2, with a 2.2uF or greater ceramic capacitor.", 5 GND (power) "Ground Pin.", 6 VOUT (in) "Output Voltage Feedback Pin."

## LTC3410BESC6-1.875#TRM
designator U?
2.25 MHz, 300 mA Synchronous Step-Down Regulator, 6-pin SOT23 (SC6-6), -40 to 85 degC, Mini Tape and Reel; Manufacturer: Linear Technology; PartNumber: LTC3410BESC6-1.875#TRM; Number of Outputs: 1; PackageReference: SC6-6; PackageDescription: 6-Pin Plastic SC70, Body 2 x 1.25 mm, Pitch 0.65 mm; RoHS: FALSE; Code_JEDEC: MO-203
footprint LT-SC6-6-SC70_N (SOT23, 6-Leads, Body 2.2x1.35mm, Pitch 0.65mm, IPC Medium Density)
footprint LT-SC6-6-SC70_L (SOT23, 6-Leads, Body 2.2x1.35mm, Pitch 0.65mm, IPC High Density)
footprint LT-SC6-6-SC70_M (SOT23, 6-Leads, Body 2.2x1.35mm, Pitch 0.65mm, IPC Low Density)
pins: 1 RUN (in) "Run Control Input. Forcing this pin above 1.5V enables the part. Forcing this pin below 0.3V shuts down the device. In shutdown, all functions are disabled drawing <1uA supply current. Do not leave RUN floating.", 2 GND (power) "Ground Pin.", 3 SW (power) "Switch Node Connection to Inductor. This pin connects to the drains of the internal main and synchronous power MOSFET switches.", 4 VIN (power) "Main Supply Pin. Must be closely decoupled to GND, Pin 2, with a 2.2uF or greater ceramic capacitor.", 5 GND (power) "Ground Pin.", 6 VOUT (in) "Output Voltage Feedback Pin."

## LTC3410BESC6-1.875#TRMPBF
designator U?
2.25 MHz, 300 mA Synchronous Step-Down Regulator, 6-pin SOT23 (SC6-6), -40 to 85 degC, Pb-Free, Mini Tape and Reel; Manufacturer: Linear Technology; PartNumber: LTC3410BESC6-1.875#TRMPBF; Number of Outputs: 1; PackageReference: SC6-6; PackageDescription: 6-Pin Plastic SC70, Body 2 x 1.25 mm, Pitch 0.65 mm; Supplier 1: Digi-Key; Supplier Part Number 1: LTC3410BESC6-1.875#TRMPBF-ND; RoHS: TRUE; Code_JEDEC: MO-203
footprint LT-SC6-6-SC70_N (SOT23, 6-Leads, Body 2.2x1.35mm, Pitch 0.65mm, IPC Medium Density)
footprint LT-SC6-6-SC70_L (SOT23, 6-Leads, Body 2.2x1.35mm, Pitch 0.65mm, IPC High Density)
footprint LT-SC6-6-SC70_M (SOT23, 6-Leads, Body 2.2x1.35mm, Pitch 0.65mm, IPC Low Density)
pins: 1 RUN (in) "Run Control Input. Forcing this pin above 1.5V enables the part. Forcing this pin below 0.3V shuts down the device. In shutdown, all functions are disabled drawing <1uA supply current. Do not leave RUN floating.", 2 GND (power) "Ground Pin.", 3 SW (power) "Switch Node Connection to Inductor. This pin connects to the drains of the internal main and synchronous power MOSFET switches.", 4 VIN (power) "Main Supply Pin. Must be closely decoupled to GND, Pin 2, with a 2.2uF or greater ceramic capacitor.", 5 GND (power) "Ground Pin.", 6 VOUT (in) "Output Voltage Feedback Pin."

## LTC3410BESC6-1.875#TRPBF
designator U?
2.25 MHz, 300 mA Synchronous Step-Down Regulator, 6-pin SOT23 (SC6-6), -40 to 85 degC, Pb-Free, Tape and Reel; Manufacturer: Linear Technology; PartNumber: LTC3410BESC6-1.875#TRPBF; Number of Outputs: 1; PackageReference: SC6-6; PackageDescription: 6-Pin Plastic SC70, Body 2 x 1.25 mm, Pitch 0.65 mm; Supplier 1: Digi-Key; Supplier Part Number 1: LTC3410BESC6-1.875#TRPBF-ND; RoHS: TRUE; Code_JEDEC: MO-203
footprint LT-SC6-6-SC70_N (SOT23, 6-Leads, Body 2.2x1.35mm, Pitch 0.65mm, IPC Medium Density)
footprint LT-SC6-6-SC70_L (SOT23, 6-Leads, Body 2.2x1.35mm, Pitch 0.65mm, IPC High Density)
footprint LT-SC6-6-SC70_M (SOT23, 6-Leads, Body 2.2x1.35mm, Pitch 0.65mm, IPC Low Density)
pins: 1 RUN (in) "Run Control Input. Forcing this pin above 1.5V enables the part. Forcing this pin below 0.3V shuts down the device. In shutdown, all functions are disabled drawing <1uA supply current. Do not leave RUN floating.", 2 GND (power) "Ground Pin.", 3 SW (power) "Switch Node Connection to Inductor. This pin connects to the drains of the internal main and synchronous power MOSFET switches.", 4 VIN (power) "Main Supply Pin. Must be closely decoupled to GND, Pin 2, with a 2.2uF or greater ceramic capacitor.", 5 GND (power) "Ground Pin.", 6 VOUT (in) "Output Voltage Feedback Pin."

## LTC3410ESC6
designator U?
2.25 MHz, 300 mA Synchronous Step-Down Regulator, 6-pin SOT23 (SC6-6), -40 to 85 degC; Manufacturer: Linear Technology; PartNumber: LTC3410ESC6; Number of Outputs: 1; PackageReference: SC6-6; PackageDescription: 6-Pin Plastic SC70, Body 2 x 1.25 mm, Pitch 0.65 mm; RoHS: FALSE; Code_JEDEC: MO-203
footprint LT-SC6-6-SC70_N (SOT23, 6-Leads, Body 2.2x1.35mm, Pitch 0.65mm, IPC Medium Density)
footprint LT-SC6-6-SC70_L (SOT23, 6-Leads, Body 2.2x1.35mm, Pitch 0.65mm, IPC High Density)
footprint LT-SC6-6-SC70_M (SOT23, 6-Leads, Body 2.2x1.35mm, Pitch 0.65mm, IPC Low Density)
pins: 1 RUN (in) "Run Control Input. Forcing this pin above 1.5V enables the part. Forcing this pin below 0.3V shuts down the device. In shutdown, all functions are disabled drawing <1uA supply current. Do not leave RUN floating.", 2 GND (power) "Ground Pin.", 3 SW (power) "Switch Node Connection to Inductor. This pin connects to the drains of the internal main and synchronous power MOSFET switches.", 4 VIN (power) "Main Supply Pin. Must be closely decoupled to GND, Pin 2, with a 2.2uF or greater ceramic capacitor.", 5 GND (power) "Ground Pin.", 6 VFB (in) "Feedback Pin. Receives the feedback voltage from an external resistive divider across the output."

## LTC3410ESC6#PBF
designator U?
2.25 MHz, 300 mA Synchronous Step-Down Regulator, 6-pin SOT23 (SC6-6), -40 to 85 degC, Pb-Free; Manufacturer: Linear Technology; PartNumber: LTC3410ESC6#PBF; Number of Outputs: 1; PackageReference: SC6-6; PackageDescription: 6-Pin Plastic SC70, Body 2 x 1.25 mm, Pitch 0.65 mm; Supplier 1: Farnell; Supplier Part Number 1: 2295037; RoHS: TRUE; Code_JEDEC: MO-203
footprint LT-SC6-6-SC70_N (SOT23, 6-Leads, Body 2.2x1.35mm, Pitch 0.65mm, IPC Medium Density)
footprint LT-SC6-6-SC70_L (SOT23, 6-Leads, Body 2.2x1.35mm, Pitch 0.65mm, IPC High Density)
footprint LT-SC6-6-SC70_M (SOT23, 6-Leads, Body 2.2x1.35mm, Pitch 0.65mm, IPC Low Density)
pins: 1 RUN (in) "Run Control Input. Forcing this pin above 1.5V enables the part. Forcing this pin below 0.3V shuts down the device. In shutdown, all functions are disabled drawing <1uA supply current. Do not leave RUN floating.", 2 GND (power) "Ground Pin.", 3 SW (power) "Switch Node Connection to Inductor. This pin connects to the drains of the internal main and synchronous power MOSFET switches.", 4 VIN (power) "Main Supply Pin. Must be closely decoupled to GND, Pin 2, with a 2.2uF or greater ceramic capacitor.", 5 GND (power) "Ground Pin.", 6 VFB (in) "Feedback Pin. Receives the feedback voltage from an external resistive divider across the output."

## LTC3410ESC6#TR
designator U?
2.25 MHz, 300 mA Synchronous Step-Down Regulator, 6-pin SOT23 (SC6-6), -40 to 85 degC, Tape and Reel; Manufacturer: Linear Technology; PartNumber: LTC3410ESC6#TR; Number of Outputs: 1; PackageReference: SC6-6; PackageDescription: 6-Pin Plastic SC70, Body 2 x 1.25 mm, Pitch 0.65 mm; RoHS: FALSE; Code_JEDEC: MO-203
footprint LT-SC6-6-SC70_N (SOT23, 6-Leads, Body 2.2x1.35mm, Pitch 0.65mm, IPC Medium Density)
footprint LT-SC6-6-SC70_L (SOT23, 6-Leads, Body 2.2x1.35mm, Pitch 0.65mm, IPC High Density)
footprint LT-SC6-6-SC70_M (SOT23, 6-Leads, Body 2.2x1.35mm, Pitch 0.65mm, IPC Low Density)
pins: 1 RUN (in) "Run Control Input. Forcing this pin above 1.5V enables the part. Forcing this pin below 0.3V shuts down the device. In shutdown, all functions are disabled drawing <1uA supply current. Do not leave RUN floating.", 2 GND (power) "Ground Pin.", 3 SW (power) "Switch Node Connection to Inductor. This pin connects to the drains of the internal main and synchronous power MOSFET switches.", 4 VIN (power) "Main Supply Pin. Must be closely decoupled to GND, Pin 2, with a 2.2uF or greater ceramic capacitor.", 5 GND (power) "Ground Pin.", 6 VFB (in) "Feedback Pin. Receives the feedback voltage from an external resistive divider across the output."

## LTC3410ESC6#TRM
designator U?
2.25 MHz, 300 mA Synchronous Step-Down Regulator, 6-pin SOT23 (SC6-6), -40 to 85 degC, Mini Tape and Reel; Manufacturer: Linear Technology; PartNumber: LTC3410ESC6#TRM; Number of Outputs: 1; PackageReference: SC6-6; PackageDescription: 6-Pin Plastic SC70, Body 2 x 1.25 mm, Pitch 0.65 mm; RoHS: FALSE; Code_JEDEC: MO-203
footprint LT-SC6-6-SC70_N (SOT23, 6-Leads, Body 2.2x1.35mm, Pitch 0.65mm, IPC Medium Density)
footprint LT-SC6-6-SC70_L (SOT23, 6-Leads, Body 2.2x1.35mm, Pitch 0.65mm, IPC High Density)
footprint LT-SC6-6-SC70_M (SOT23, 6-Leads, Body 2.2x1.35mm, Pitch 0.65mm, IPC Low Density)
pins: 1 RUN (in) "Run Control Input. Forcing this pin above 1.5V enables the part. Forcing this pin below 0.3V shuts down the device. In shutdown, all functions are disabled drawing <1uA supply current. Do not leave RUN floating.", 2 GND (power) "Ground Pin.", 3 SW (power) "Switch Node Connection to Inductor. This pin connects to the drains of the internal main and synchronous power MOSFET switches.", 4 VIN (power) "Main Supply Pin. Must be closely decoupled to GND, Pin 2, with a 2.2uF or greater ceramic capacitor.", 5 GND (power) "Ground Pin.", 6 VFB (in) "Feedback Pin. Receives the feedback voltage from an external resistive divider across the output."

## LTC3410ESC6#TRMPBF
designator U?
2.25 MHz, 300 mA Synchronous Step-Down Regulator, 6-pin SOT23 (SC6-6), -40 to 85 degC, Pb-Free, Mini Tape and Reel; Manufacturer: Linear Technology; PartNumber: LTC3410ESC6#TRMPBF; Number of Outputs: 1; PackageReference: SC6-6; PackageDescription: 6-Pin Plastic SC70, Body 2 x 1.25 mm, Pitch 0.65 mm; Supplier 1: Digi-Key; Supplier Part Number 1: LTC3410ESC6#TRMPBFTR-ND; RoHS: TRUE; Code_JEDEC: MO-203
footprint LT-SC6-6-SC70_N (SOT23, 6-Leads, Body 2.2x1.35mm, Pitch 0.65mm, IPC Medium Density)
footprint LT-SC6-6-SC70_L (SOT23, 6-Leads, Body 2.2x1.35mm, Pitch 0.65mm, IPC High Density)
footprint LT-SC6-6-SC70_M (SOT23, 6-Leads, Body 2.2x1.35mm, Pitch 0.65mm, IPC Low Density)
pins: 1 RUN (in) "Run Control Input. Forcing this pin above 1.5V enables the part. Forcing this pin below 0.3V shuts down the device. In shutdown, all functions are disabled drawing <1uA supply current. Do not leave RUN floating.", 2 GND (power) "Ground Pin.", 3 SW (power) "Switch Node Connection to Inductor. This pin connects to the drains of the internal main and synchronous power MOSFET switches.", 4 VIN (power) "Main Supply Pin. Must be closely decoupled to GND, Pin 2, with a 2.2uF or greater ceramic capacitor.", 5 GND (power) "Ground Pin.", 6 VFB (in) "Feedback Pin. Receives the feedback voltage from an external resistive divider across the output."

## LTC3410ESC6#TRPBF
designator U?
2.25 MHz, 300 mA Synchronous Step-Down Regulator, 6-pin SOT23 (SC6-6), -40 to 85 degC, Pb-Free, Tape and Reel; Manufacturer: Linear Technology; PartNumber: LTC3410ESC6#TRPBF; Number of Outputs: 1; PackageReference: SC6-6; PackageDescription: 6-Pin Plastic SC70, Body 2 x 1.25 mm, Pitch 0.65 mm; Supplier 1: Digi-Key; Supplier Part Number 1: LTC3410ESC6#TRPBF-ND; RoHS: TRUE; Code_JEDEC: MO-203
footprint LT-SC6-6-SC70_N (SOT23, 6-Leads, Body 2.2x1.35mm, Pitch 0.65mm, IPC Medium Density)
footprint LT-SC6-6-SC70_L (SOT23, 6-Leads, Body 2.2x1.35mm, Pitch 0.65mm, IPC High Density)
footprint LT-SC6-6-SC70_M (SOT23, 6-Leads, Body 2.2x1.35mm, Pitch 0.65mm, IPC Low Density)
pins: 1 RUN (in) "Run Control Input. Forcing this pin above 1.5V enables the part. Forcing this pin below 0.3V shuts down the device. In shutdown, all functions are disabled drawing <1uA supply current. Do not leave RUN floating.", 2 GND (power) "Ground Pin.", 3 SW (power) "Switch Node Connection to Inductor. This pin connects to the drains of the internal main and synchronous power MOSFET switches.", 4 VIN (power) "Main Supply Pin. Must be closely decoupled to GND, Pin 2, with a 2.2uF or greater ceramic capacitor.", 5 GND (power) "Ground Pin.", 6 VFB (in) "Feedback Pin. Receives the feedback voltage from an external resistive divider across the output."

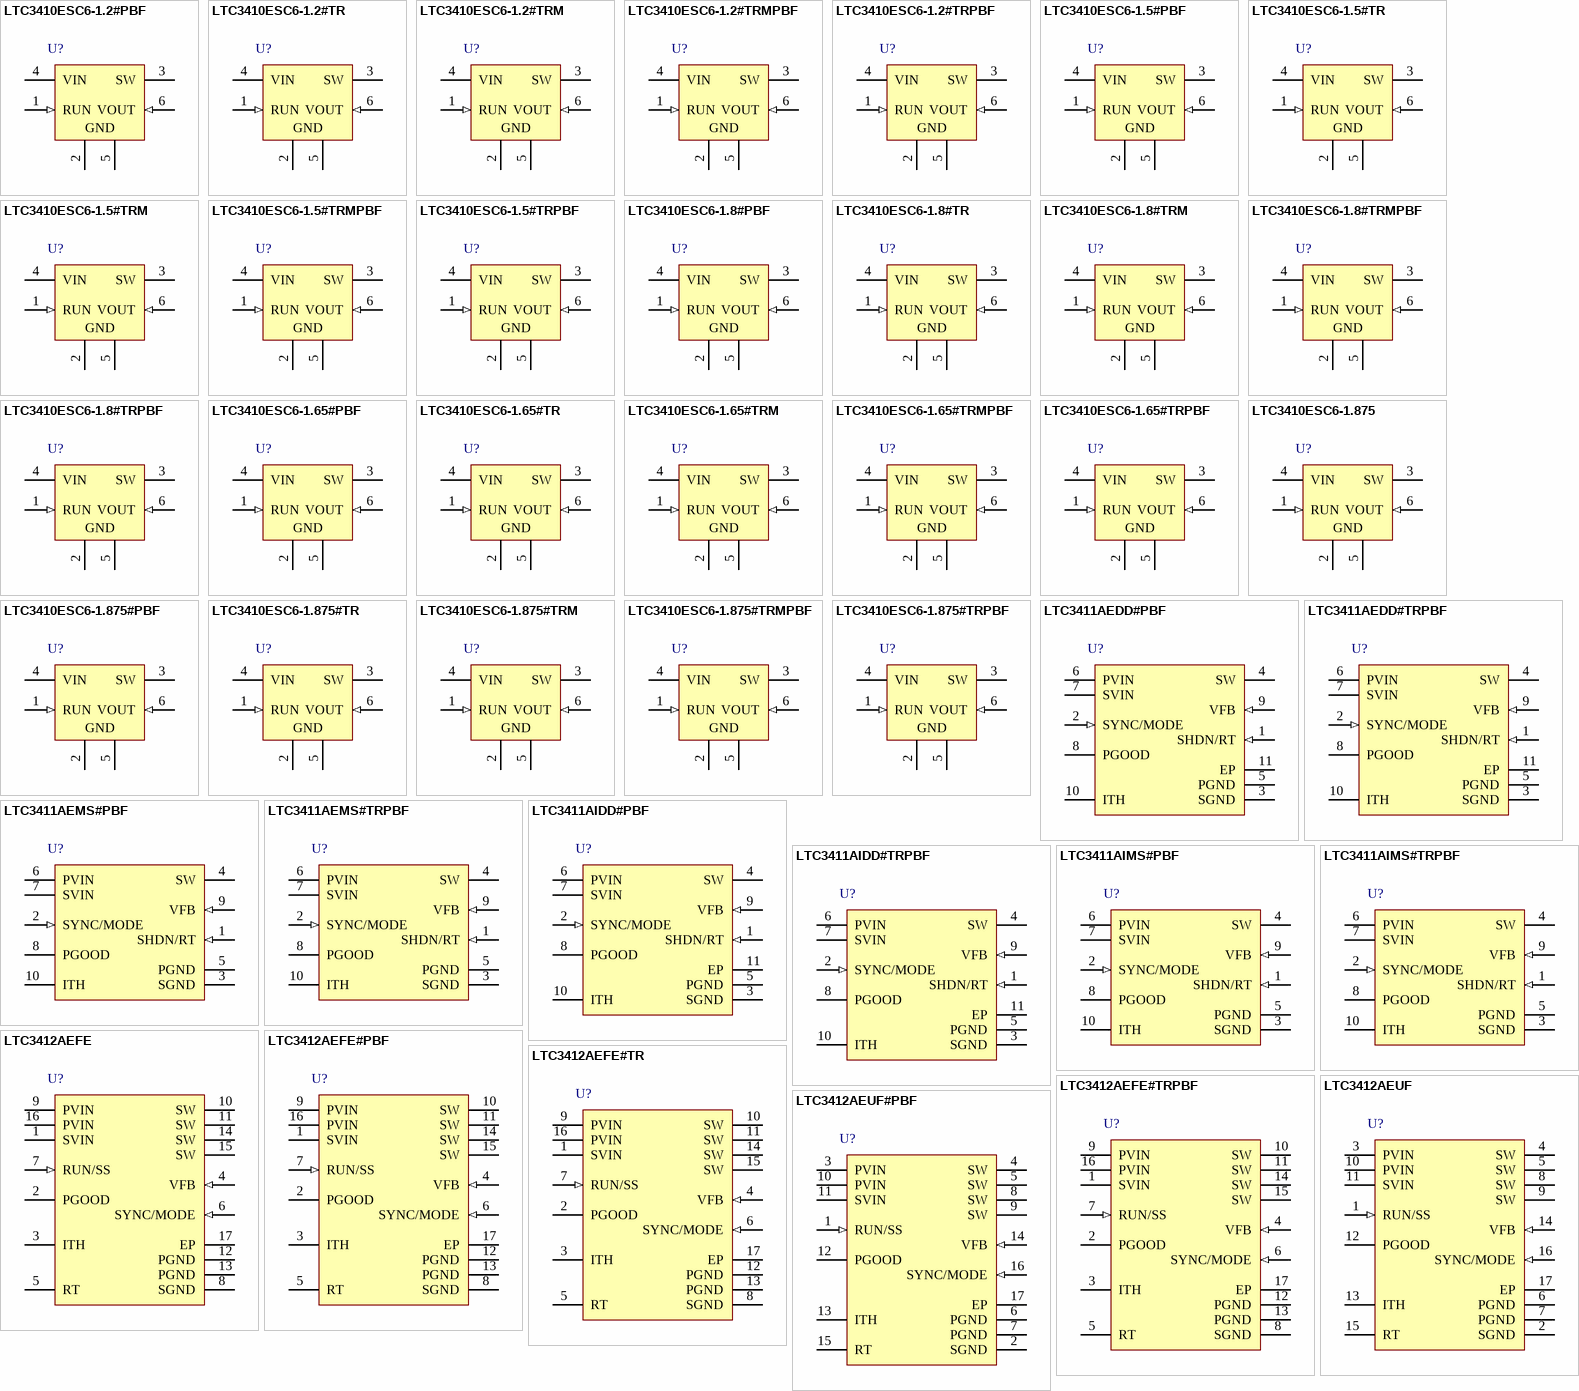
[diagram p21: symbols LTC3410ESC6-1.2#PBF to LTC3412AEUF#PBF]

## LTC3410ESC6-1.2#PBF
designator U?
2.25 MHz, 300 mA Synchronous Step-Down Regulator, 6-pin SOT23 (SC6-6), -40 to 85 degC, Pb-Free; Manufacturer: Linear Technology; PartNumber: LTC3410ESC6-1.2#PBF; Number of Outputs: 1; PackageReference: SC6-6; PackageDescription: 6-Pin Plastic SC70, Body 2 x 1.25 mm, Pitch 0.65 mm; RoHS: TRUE; Code_JEDEC: MO-203
footprint LT-SC6-6-SC70_N (SOT23, 6-Leads, Body 2.2x1.35mm, Pitch 0.65mm, IPC Medium Density)
footprint LT-SC6-6-SC70_L (SOT23, 6-Leads, Body 2.2x1.35mm, Pitch 0.65mm, IPC High Density)
footprint LT-SC6-6-SC70_M (SOT23, 6-Leads, Body 2.2x1.35mm, Pitch 0.65mm, IPC Low Density)
pins: 1 RUN (in) "Run Control Input. Forcing this pin above 1.5V enables the part. Forcing this pin below 0.3V shuts down the device. In shutdown, all functions are disabled drawing <1uA supply current. Do not leave RUN floating.", 2 GND (power) "Ground Pin.", 3 SW (power) "Switch Node Connection to Inductor. This pin connects to the drains of the internal main and synchronous power MOSFET switches.", 4 VIN (power) "Main Supply Pin. Must be closely decoupled to GND, Pin 2, with a 2.2uF or greater ceramic capacitor.", 5 GND (power) "Ground Pin.", 6 VOUT (in) "Output Voltage Feedback Pin."